# EAGLE library part ADAFRUIT_2P8_TFT_HEADER (library Etch_a_Sketch)
Adafruit 2.8" and 3.2" Color TFT Touchscreen Breakout v2 | HEADERS - SPI Mode - https://learn.adafruit.com/adafruit-2-8-and-3-2-color-tft-touchscreen-breakout-v2/pinouts
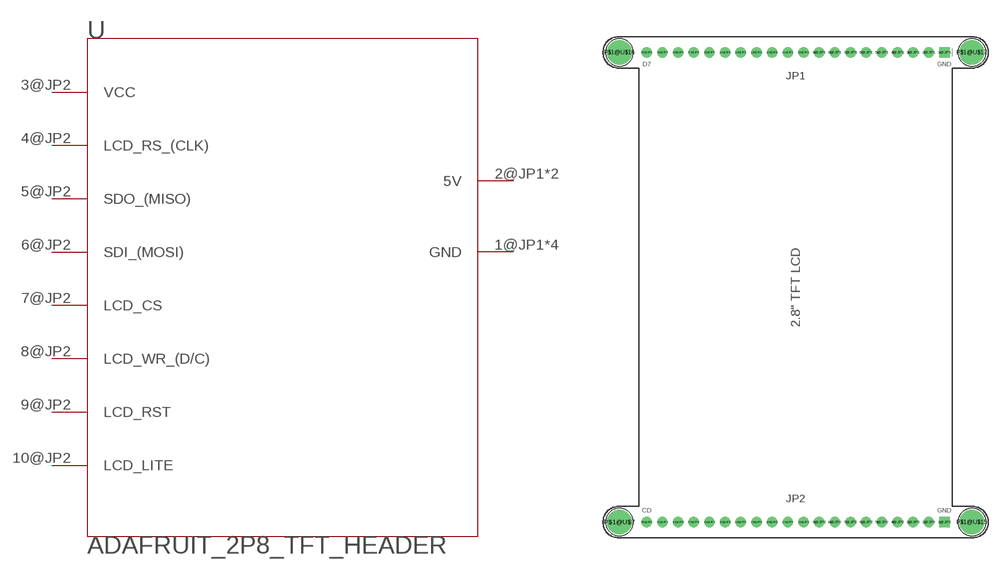
[diagram p0: symbol with the pads of ADAFRUIT_2P8_TFT_HEADER; footprint ADAFRUIT_2P8_TFT_HEADER]

Designator prefix -

## ADAFRUIT_2P8_TFT_HEADER  [ADAFRUIT_2P8_TFT_HEADER]
1@JP1  GND  pwr
1@JP2  GND  pwr
2@JP1  5V  pwr
2@JP2  5V  pwr
3@JP2  VCC  pwr
4@JP2  LCD_RS_(CLK)  in
5@JP2  SDO_(MISO)  out
6@JP2  SDI_(MOSI)  in
7@JP2  LCD_CS  in
8@JP2  LCD_WR_(D/C)  in
9@JP2  LCD_RST  in
10@JP2  LCD_LITE  in
11@JP2  GND  pwr
12@JP1  GND  pwr

## Footprint ADAFRUIT_2P8_TFT_HEADER (pad centres in mm)
Package generated by make-group2pac.ulp from: /Users/alexi/Documents/EAGLE/projects/Etch_a_Sketch/Adafruit 2.8 inch TFT w Capacitive Touch.brd at: 17/12/2025 6:45 AM
drill 1 pad 1.676 square: 1@JP1 24.13,38.1; 1@JP2 24.13,-38.1
drill 1 pad 1.676: 2@JP1 21.59,38.1; 2@JP2 21.59,-38.1; 3@JP1 19.05,38.1; 3@JP2 19.05,-38.1; 4@JP1 16.51,38.1; 4@JP2 16.51,-38.1; 5@JP1 13.97,38.1; 5@JP2 13.97,-38.1; 6@JP1 11.43,38.1; 6@JP2 11.43,-38.1; 7@JP1 8.89,38.1; 7@JP2 8.89,-38.1; 8@JP1 6.35,38.1; 8@JP2 6.35,-38.1; 9@JP1 3.81,38.1; 9@JP2 3.81,-38.1; 10@JP1 1.27,38.1; 10@JP2 1.27,-38.1; 11@JP1 -1.27,38.1; 11@JP2 -1.27,-38.1; 12@JP1 -3.81,38.1; 12@JP2 -3.81,-38.1; 13@JP1 -6.35,38.1; 13@JP2 -6.35,-38.1; 14@JP1 -8.89,38.1; 14@JP2 -8.89,-38.1; 15@JP1 -11.43,38.1; 15@JP2 -11.43,-38.1; 16@JP1 -13.97,38.1; 16@JP2 -13.97,-38.1; 17@JP1 -16.51,38.1; 17@JP2 -16.51,-38.1; 18@JP1 -19.05,38.1; 18@JP2 -19.05,-38.1; 19@JP1 -21.59,38.1; 19@JP2 -21.59,-38.1; 20@JP1 -24.13,38.1; 20@JP2 -24.13,-38.1
drill 3 pad 3.6: P$1@U$7 -28.575,-38.1; P$1@U$15 28.575,-38.1; P$1@U$16 -28.575,38.1; P$1@U$17 28.575,38.1